# EAGLE library part RM14_TRANS (library Radicon)
Epcos RM14 Transformer
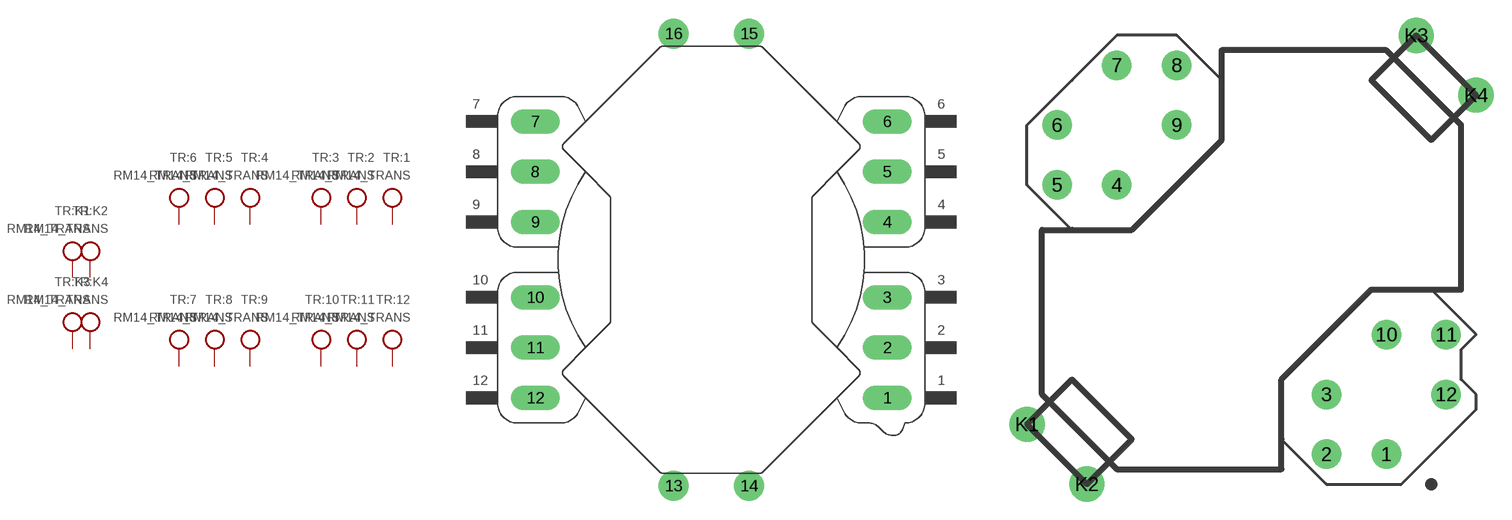
[diagram p41: symbol with the pads of RM14; footprints RM14, RM14_2]

Designator prefix TR; gates :1=TESTPAD :2=TESTPAD :3=TESTPAD :4=TESTPAD :5=TESTPAD :6=TESTPAD :7=TESTPAD :8=TESTPAD :9=TESTPAD :10=TESTPAD :11=TESTPAD :12=TESTPAD :K1=TESTPAD :K2=TESTPAD :K3=TESTPAD :K4=TESTPAD

## RM14_TRANS  [RM14]
1  :1:P$1
2  :2:P$1
3  :3:P$1
4  :4:P$1
5  :5:P$1
6  :6:P$1
7  :7:P$1
8  :8:P$1
9  :9:P$1
10  :10:P$1
11  :11:P$1
12  :12:P$1
13  :K1:P$1
14  :K2:P$1
15  :K3:P$1
16  :K4:P$1

## RM14_TRANS2  [RM14_2]
1  :1:P$1
2  :2:P$1
3  :3:P$1
4  :4:P$1
5  :5:P$1
6  :6:P$1
7  :7:P$1
8  :8:P$1
9  :9:P$1
10  :10:P$1
11  :11:P$1
12  :12:P$1
K1  :K1:P$1
K2  :K2:P$1
K3  :K3:P$1
K4  :K4:P$1

## Footprint RM14 (pad centres in mm)
drill 1.5 pad 2.5 long: 1 17.78,-12.7; 2 17.78,-7.62; 3 17.78,-2.54; 4 17.78,5.08; 5 17.78,10.16; 6 17.78,15.24; 7 -17.78,15.24; 8 -17.78,10.16; 9 -17.78,5.08; 10 -17.78,-2.54; 11 -17.78,-7.62; 12 -17.78,-12.7
drill 1.8 pad 3: 13 -3.81,-21.59; 14 3.81,-21.59; 15 3.81,24.13; 16 -3.81,24.13

## Footprint RM14_2 (pad centres in mm)
drill 1.3 pad 2.5: 1 11.43,-16.51; 2 6.35,-16.51; 3 6.35,-11.43; 4 -11.43,6.35; 5 -16.51,6.35; 6 -16.51,11.43; 7 -11.43,16.51; 8 -6.35,16.51; 9 -6.35,11.43; 10 11.43,-6.35; 11 16.51,-6.35; 12 16.51,-11.43
drill 1.6 pad 3: K1 -19.05,-13.97; K2 -13.97,-19.05; K3 13.97,19.05; K4 19.05,13.97